# Altium footprint library SOT65P210X110-5N.PcbLib: 1 footprints
Each footprint in its own frame and in the unit in brackets; x right, y up, seen from the top. Pads: shape width x height; smd on the part's side, far side on the other; paste and mask are expansions set on the pad; w line width, h text height; cw(c..) or ccw(c..) is an arc to the next point about the centre after c.
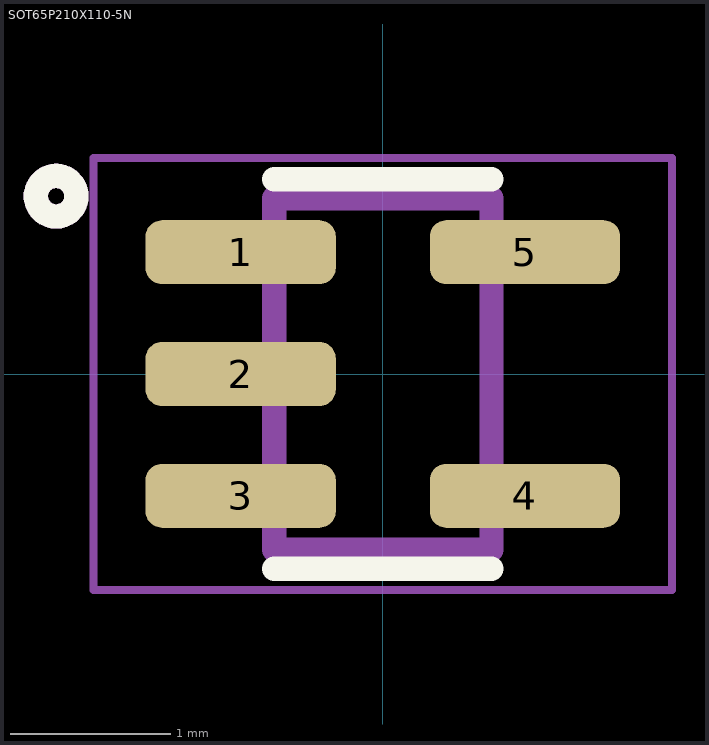
[diagram p0: the footprint, top view; thin cyan lines are the x and y axes]

## SOT65P210X110-5N [mm]
pads (5):
  rrect50% 1.19x0.4 smd: 1(-0.889,0.762) 2(-0.889,0) 3(-0.889,-0.762) 4(0.889,-0.762) 5(0.889,0.762)
Top Overlay:
  lines w0.152: -0.68,-1.219 0.68,-1.219 ; -0.68,1.219 0.68,1.219 ; -2.044,0.985 ccw(c-2.044,1.112) -2.044,1.239 ccw(c-2.044,1.112) -2.044,0.985
Assembly Top:
  lines w0.152: -2.044,0.985 ccw(c-2.044,1.112) -2.044,1.239 ccw(c-2.044,1.112) -2.044,0.985 ; -0.68,-1.1 0.68,-1.1 0.68,1.1 -0.68,1.1 -0.68,-1.1
Courtyard Top:
  lines w0.05: -1.81,-1.35 -1.81,1.35 -0.93,1.35 0.93,1.35 1.81,1.35 1.81,-1.35 0.93,-1.35 -0.93,-1.35 -1.81,-1.35
3D body "step_temp.STEP": height 1.1, standoff 0, extent -1.1,-1 1.1,1